# EAGLE library part M34519(42PIN) (library renesas_mcu)
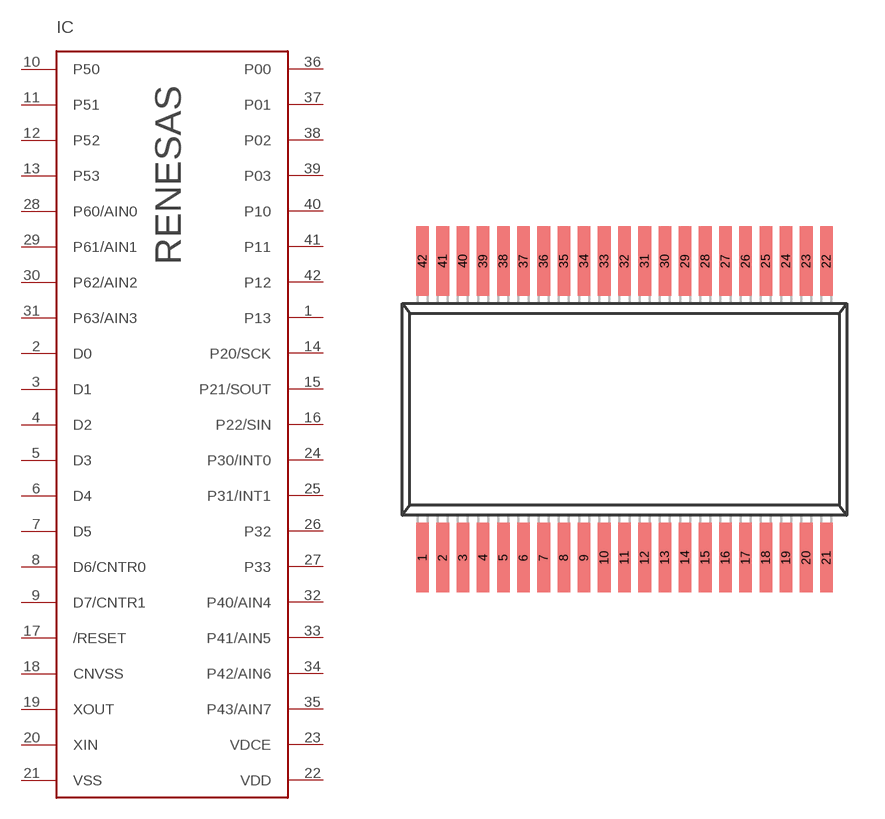
[diagram p51: symbol with the pads of 42P2R-A; footprint 42P2R-A]

Designator prefix IC

## M34519(42PIN)  [42P2R-A]
1  P13
2  D0
3  D1
4  D2
5  D3
6  D4
7  D5
8  D6/CNTR0
9  D7/CNTR1
10  P50
11  P51
12  P52
13  P53
14  P20/SCK
15  P21/SOUT
16  P22/SIN
17  /RESET
18  CNVSS
19  XOUT  out
20  XIN  in
21  VSS  pwr
22  VDD  pwr
23  VDCE  in
24  P30/INT0
25  P31/INT1
26  P32
27  P33
28  P60/AIN0
29  P61/AIN1
30  P62/AIN2
31  P63/AIN3
32  P40/AIN4
33  P41/AIN5
34  P42/AIN6
35  P43/AIN7
36  P00
37  P01
38  P02
39  P03
40  P10
41  P11
42  P12

## Footprint 42P2R-A (pad centres in mm)
smd 0.5 x 2.75: 1 -8,-5.875; 2 -7.2,-5.875; 3 -6.4,-5.875; 4 -5.6,-5.875; 5 -4.8,-5.875; 6 -4,-5.875; 7 -3.2,-5.875; 8 -2.4,-5.875; 9 -1.6,-5.875; 10 -0.8,-5.875; 11 0,-5.875; 12 0.8,-5.875; 13 1.6,-5.875; 14 2.4,-5.875; 15 3.2,-5.875; 16 4,-5.875; 17 4.8,-5.875; 18 5.6,-5.875; 19 6.4,-5.875; 20 7.2,-5.875; 21 8,-5.875; 22 8,5.875; 23 7.2,5.875; 24 6.4,5.875; 25 5.6,5.875; 26 4.8,5.875; 27 4,5.875; 28 3.2,5.875; 29 2.4,5.875; 30 1.6,5.875; 31 0.8,5.875; 32 0,5.875; 33 -0.8,5.875; 34 -1.6,5.875; 35 -2.4,5.875; 36 -3.2,5.875; 37 -4,5.875; 38 -4.8,5.875; 39 -5.6,5.875; 40 -6.4,5.875; 41 -7.2,5.875; 42 -8,5.875